# EAGLE library part MYBSP0122BABFT (library HokyoParts)
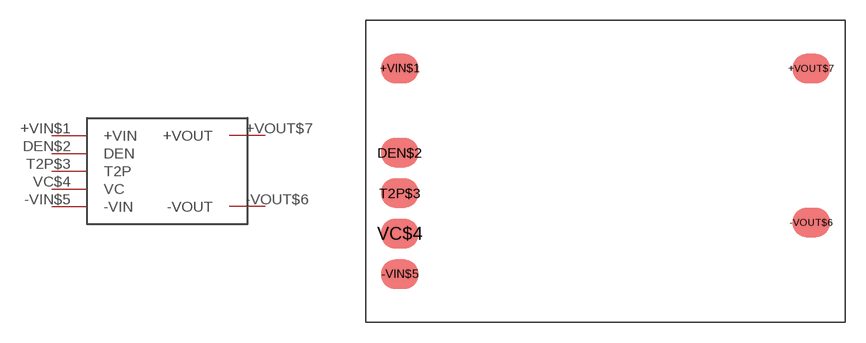
[diagram p0: symbol with the pads of MYBSP0122BABFT; footprint MYBSP0122BABFT]

Designator prefix -

## MYBSP0122BABFT  [MYBSP0122BABFT]
+VIN$1  +VIN  in
+VOUT$7  +VOUT  out
-VIN$5  -VIN  in
-VOUT$6  -VOUT  in
DEN$2  DEN
T2P$3  T2P
VC$4  VC

## Footprint MYBSP0122BABFT (pad centres in mm)
smd 2.8 x 2.2: +VIN$1 2.525,18.825; +VOUT$7 32.975,18.825; -VIN$5 2.525,3.575; -VOUT$6 32.975,7.4; DEN$2 2.525,12.575; T2P$3 2.525,9.575; VC$4 2.525,6.575